# Altium footprint library DIP-12H.PcbLib: 1 footprints
Each footprint in its own frame and in the unit in brackets; x right, y up, seen from the top. Pads: shape width x height; smd on the part's side, far side on the other; paste and mask are expansions set on the pad; w line width, h text height; cw(c..) or ccw(c..) is an arc to the next point about the centre after c.
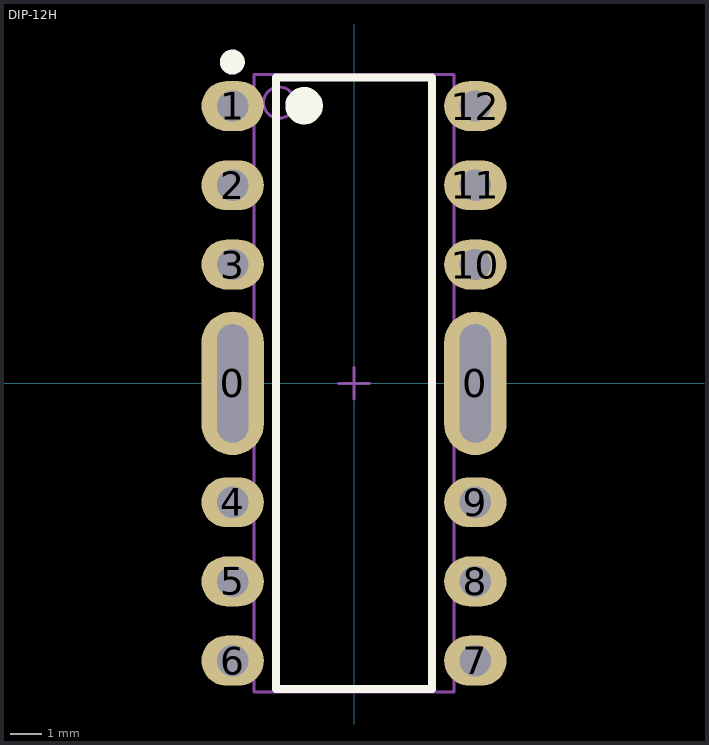
[diagram p0: the footprint, top view; thin cyan lines are the x and y axes]

## DIP-12H [mm] "=12-DIPH-300"
pads (14):
  oval 2x4.6 hole 1 slot 3.8 at 90 deg: 0(-3.89,0) 0(3.89,0)
  oval 2x1.6 hole 1: 1(-3.89,8.89) 2(-3.89,6.35) 3(-3.89,3.81) 4(-3.89,-3.81) 5(-3.89,-6.35) 6(-3.89,-8.89) 7(3.89,-8.89) 8(3.89,-6.35) 9(3.89,-3.81) 10(3.89,3.81) 11(3.89,6.35) 12(3.89,8.89)
Top Overlay:
  circle w0.6: c-1.6,8.9 r0.3
  circle w0.4: c-3.9,10.3 r0.2
  lines w0.254: -2.5,-9.8 -2.5,9.8 2.5,9.8 2.5,-9.8 -2.5,-9.8
Mechanical 13:
  circle w0.1: c-2.4,9 r0.5
  lines w0.1: -3.2,-9.9 3.2,-9.9 3.2,9.9 -3.2,9.9 -3.2,-9.9
Mechanical 15:
  lines w0.1: -0.5,0 0.5,0 ; 0,-0.5 0,0.5